# Altium footprint library XBee.PcbLib: 1 footprints
Each footprint in its own frame and in the unit in brackets; x right, y up, seen from the top. Pads: shape width x height; smd on the part's side, far side on the other; paste and mask are expansions set on the pad; w line width, h text height; cw(c..) or ccw(c..) is an arc to the next point about the centre after c.
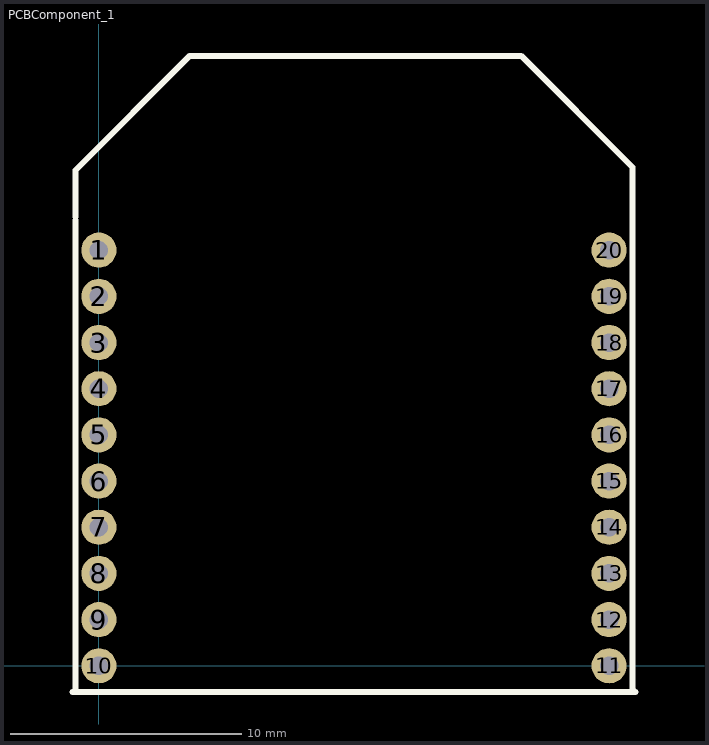
[diagram p0: the footprint, top view; thin cyan lines are the x and y axes]

## PCBComponent_1 [mil]
pads (20):
  round 60 hole 31.5: 1(0,708.66) 2(0,629.92) 3(0,551.18) 4(0,472.44) 5(0,393.7) 6(0,314.96) 7(0,236.22) 8(0,157.48) 9(0,78.74) 10(0,0) 11(870,0) 12(870,78.74) 13(870,157.48) 14(870,236.22) 15(870,314.96) 16(870,393.7) 17(870,472.44) 18(870,551.18) 19(870,629.92) 20(870,708.66)
Top Overlay:
  lines w10: -45,-45 915,-45 910,-40 910,795 ; -40,-40 -40,760 ; -40,765 -40,845 155,1040 720,1040 910,850 910,740 ; 240,1040 665,1040